# EAGLE library part MAX15101EWL (library MAX15101EWL)
MAX15101 Small 1A, Low-Dropout Linear Regulator in a 2.7mm × 1.6mm Package See http://datasheets.maximintegrated.com/en/ds/MAX15101.pdf http://www.maximintegrated.com/design/packaging/cad/download.mvp/file_name/max15101ewl_plu_t.bxl
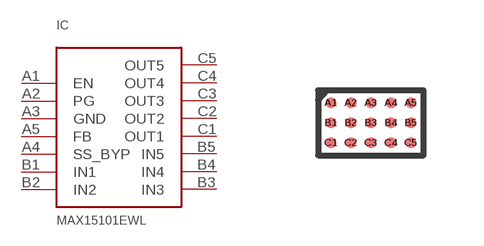
[diagram p0: symbol with the pads of BGA_CB15; footprint BGA_CB15]

Designator prefix IC

## MAX15101EWL  [BGA_CB15]
A1  EN
A2  PG
A3  GND
A4  SS_BYP
A5  FB
B1  IN1
B2  IN2
B3  IN3
B4  IN4
B5  IN5
C1  OUT1
C2  OUT2
C3  OUT3
C4  OUT4
C5  OUT5

## Footprint BGA_CB15 (pad centres in mm)
11-Ball, Backside-Coated, Wafer Level Chip Scale Package WLCSP CB-11-1 Source: http://www.analog.com/static/imported-files/data_sheets/AD8235.pdf
smd 0.279 x 0.279: A1 -1,0.5; A2 -0.5,0.5; A3 0,0.5; A4 0.5,0.5; A5 1,0.5; B1 -1,0; B2 -0.5,0; B3 0,0; B4 0.5,0; B5 1,0; C1 -1,-0.5; C2 -0.5,-0.5; C3 0,-0.5; C4 0.5,-0.5; C5 1,-0.5